# Altium schematic symbol library 5535070-5.SchLib: 1 symbol
Pins are listed as number, name and electrical type; pins without a type are passive.

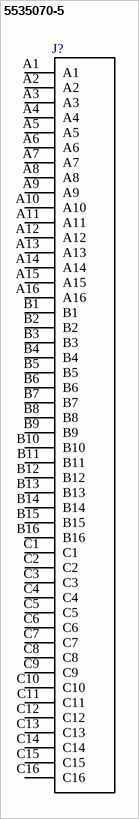
[diagram p0: symbol 5535070-5]

## 5535070-5
designator J?  (value not drawn)
ASSY,RECEPTACLE,EUROCARD,TYPE; Centerline_Pitch: 2.54 mm[.1 in]; Product_Type: Connector; Number_of_Positions: 48; MF: TE Connectivity; Digi-Key_Part_Number: A32834-ND; EU_RoHS_Compliance: Compliant; Package: None; SnapEDA_Link: https://www.snapeda.com/parts/5535070-5/TE%20Connectivity%20AMP%20Connectors/view-part/?ref=snap; MP: 5535070-5; Digi-Key_Purchase_URL: https://www.digikey.com/product-detail/en/te-connectivity-amp-connectors/5535070-5/A32834-ND/1091294?utm_source=snapeda&utm_medium=aggregator&utm_campaign=symbol; TE_purchase_URL: https://www.te.com/usa-en/product-5535070-5.html?te_bu=Cor&te_type=disp&te_campaign=seda_glo_cor-seda-global-disp-prtnr-fy19-seda-model-bom-cta_sma-317_1&elqCampaignId=32493; Value: *
footprint TE_5535070-5
pins: A1, A2, A3, A4, A5, A6, A7, A8, A9, A10, A11, A12, A13, A14, A15, A16, B1, B2, B3, B4, B5, B6, B7, B8, B9, B10, B11, B12, B13, B14, B15, B16, C1, C2, C3, C4, C5, C6, C7, C8, C9, C10, C11, C12, C13, C14, C15, C16